# Altium schematic symbol library TPS7A4901.Schlib: 1 symbol
Pins are listed as number, name and electrical type; pins without a type are passive.

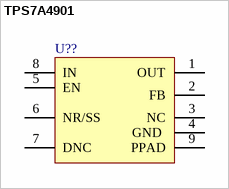
[diagram p0: symbol TPS7A4901]

## TPS7A4901
designator U??
pins: 1 OUT, 2 FB, 3 NC, 4 GND , 5 EN , 6 NR/SS, 7 DNC, 8 IN, 9 PPAD